# Altium schematic symbol library GENERIC_NPN_BCE.Schlib: 1 symbol
Pins are listed as number, name and electrical type; pins without a type are passive.

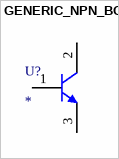
[diagram p0: symbol GENERIC_NPN_BCE]

## GENERIC_NPN_BCE
designator U?
pins: 1 B, 2 C, 3 E